# EAGLE library part KK156-09_S (library con-molex-kk)
HEADER
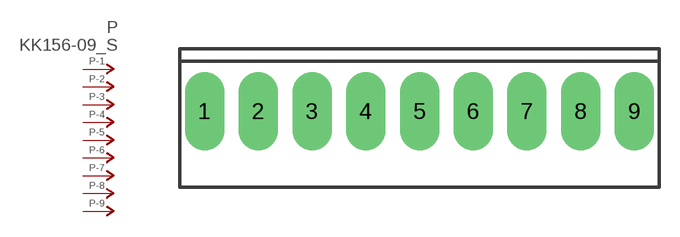
[diagram p167: symbol with the pads of KK156-09; footprint KK156-09]

Designator prefix P; gates -1=P-NV -2=P-N -3=P-N -4=P-N -5=P-N -6=P-N -7=P-N -8=P-N -9=P-N

## KK156-09_S  [KK156-09]
1  -1:P  pas
2  -2:P  pas
3  -3:P  pas
4  -4:P  pas
5  -5:P  pas
6  -6:P  pas
7  -7:P  pas
8  -8:P  pas
9  -9:P  pas

## Footprint KK156-09 (pad centres in mm)
HEADER - 0.156" SPOX 5273 Series
drill 1.93 long: 1 -15.85,0; 2 -11.887,0; 3 -7.925,0; 4 -3.962,0; 5 0,0; 6 3.962,0; 7 7.925,0; 8 11.887,0; 9 15.85,0